# Altium footprint library PcbLib1.PcbLib: 1 footprints
Each footprint in its own frame and in the unit in brackets; x right, y up, seen from the top. Pads: shape width x height; smd on the part's side, far side on the other; paste and mask are expansions set on the pad; w line width, h text height; cw(c..) or ccw(c..) is an arc to the next point about the centre after c.

## Electrode connectot_3D [mm]
3D body "Electrode.step": height 0.73, standoff 0.23, extent -4.318,0.78 5.682,34.78
3D body "PEC-03-01-T-S-LC.stp": height 2.22, standoff -2.22, extent -5.842,-5.182 6.858,4.572